# Altium schematic symbol library STN9360.Schlib: 1 symbol
Pins are listed as number, name and electrical type; pins without a type are passive.

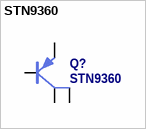
[diagram p0: symbol STN9360]

## STN9360
designator Q?
pins: 1 B, 2 C, 3 E, 4 C